# Altium schematic symbol library 74HC02.SchLib: 1 symbol
Pins are listed as number, name and electrical type; pins without a type are passive.

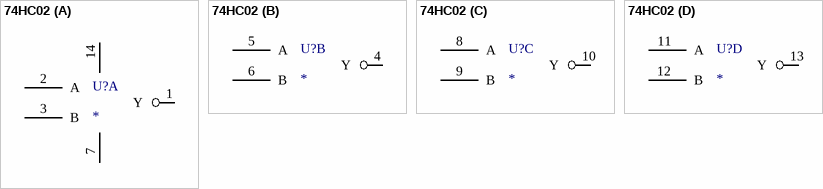
[diagram p0: symbol 74HC02]

## 74HC02
designator U?
part A pins: 1 Y, 2 A, 3 B, 7 GND, 14 VCC
part B pins: 4 Y, 5 A, 6 B
part C pins: 8 A, 9 B, 10 Y
part D pins: 11 A, 12 B, 13 Y